# Altium footprint library SMD-0603.PcbLib: 2 footprints
Each footprint in its own frame and in the unit in brackets; x right, y up, seen from the top. Pads: shape width x height; smd on the part's side, far side on the other; paste and mask are expansions set on the pad; w line width, h text height; cw(c..) or ccw(c..) is an arc to the next point about the centre after c.
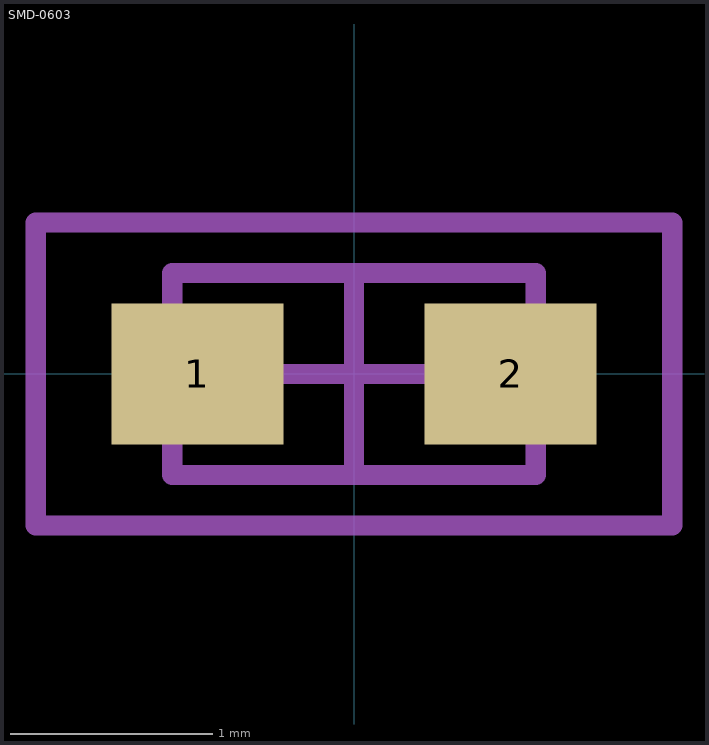
[diagram p0: the footprints below, top view; thin cyan lines are the x and y axes]

## PCBComponent_1 [mm]

## SMD-0603 [mm] "Chip Inductor, 2-Leads, Body 1.6x0.8mm"
height 0.95
pads (2):
  rect 0.85x0.7 smd: 1(-0.775,0) 2(0.775,0)
Mechanical 13:
  lines w0.1: -0.9,-0.5 -0.9,0.5 0.9,0.5 0.9,-0.5 -0.9,-0.5
Mechanical 15:
  lines w0.1: -0.5,0 0.5,0 ; 0,-0.5 0,0.5 ; -1.575,-0.75 -1.575,0.75 1.575,0.75 1.575,-0.75 -1.575,-0.75
3D body "742792623.stp": height 0.79, standoff -0.01, extent -0.8,-0.4 0.8,0.401